# EAGLE library part 5499160-1 (library Tyco_By_element14_Batch_1)
WIRE-BOARD CONN, HEADER, 10POS, 2.54MM
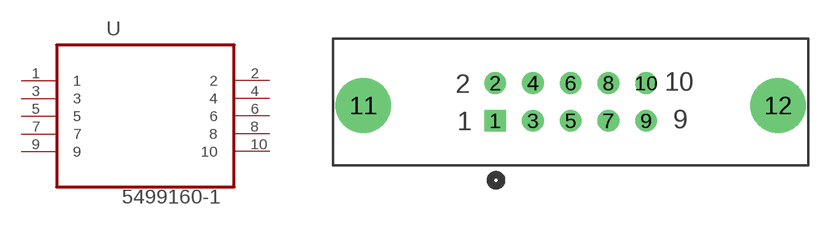
[diagram p119: symbol with the pads of TYCO_5499160-1; footprint TYCO_5499160-1]

Designator prefix U

## 5499160-1 (MPN: 5499160-1; OC_FARNELL: 1614390; OC_NEWARK: 42K7195; PACKAGE: HEADER, 10POS, 2.54MM; SUPPLIER: TycoElectronics)  [TYCO_5499160-1]
1  1  pas
2  2  pas
3  3  pas
4  4  pas
5  5  pas
6  6  pas
7  7  pas
8  8  pas
9  9  pas
10  10  pas

## Footprint TYCO_5499160-1 (pad centres in mm)
drill 0.965 square: 1 -10.16,-2.54
drill 0.965: 2 -10.16,0; 3 -7.62,-2.54; 4 -7.62,0; 5 -5.08,-2.54; 6 -5.08,0; 7 -2.54,-2.54; 8 -2.54,0; 9 0,-2.54; 10 0,0
drill 2.692: 11 -19.05,-1.524; 12 8.89,-1.524